# EAGLE library part RY8310 (library ruark2)
30V 1.2A 1.4MHz PWM SYN Step-Down Regulator
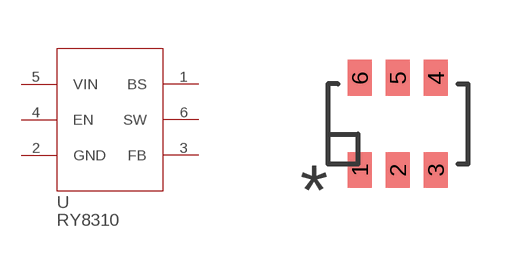
[diagram p114: symbol with the pads of SOT23-6; footprint SOT23-6]

Designator prefix U

## RY8310  [SOT23-6]
1  BS
2  GND
3  FB
4  EN
5  VIN
6  SW

## Footprint SOT23-6 (pad centres in mm)
smd 0.6 x 0.9: 1 -0.95,-1.15; 2 0,-1.15; 3 0.95,-1.15; 4 0.95,1.15; 5 0,1.15; 6 -0.95,1.15